# Altium footprint library SKY13446-374LF.PcbLib: 1 footprints
Each footprint in its own frame and in the unit in brackets; x right, y up, seen from the top. Pads: shape width x height; smd on the part's side, far side on the other; paste and mask are expansions set on the pad; w line width, h text height; cw(c..) or ccw(c..) is an arc to the next point about the centre after c.
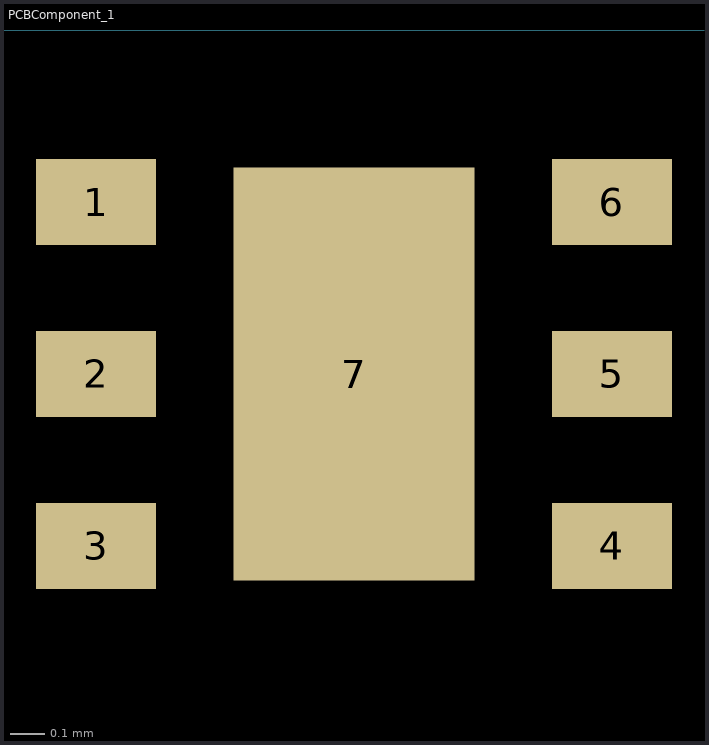
[diagram p0: the footprint, top view; thin cyan lines are the x and y axes]

## PCBComponent_1 [mm]
pads (7):
  rect 0.35x0.25 smd mask+0.025: 1(0.5,-0.5) 2(0.5,-1) 3(0.5,-1.5) 4(2,-1.5) 5(2,-1) 6(2,-0.5)
  rect 0.7x1.2 smd mask+0.025: 7(1.25,-1)
3D body: height 0.45, standoff 0.02, extent 0.5,-1.75 2,-0.25